# Altium schematic symbol library Mtg_Hole-106.SchLib: 1 symbol
Pins are listed as number, name and electrical type; pins without a type are passive.

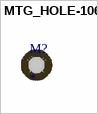
[diagram p0: symbol MTG_HOLE-106]

## MTG_HOLE-106
designator M?